# EAGLE library part TSUNAMI_AUDIO_PORTS (library audioflyer)
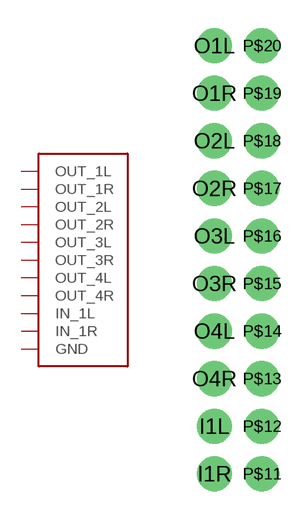
[diagram p1: symbol with the pads of TSUNAMI_AUDIO_PORTS; footprint TSUNAMI_AUDIO_PORTS]

Designator prefix -

## TSUNAMI_AUDIO_PORTS  [TSUNAMI_AUDIO_PORTS]
I1L  IN_1L
I1R  IN_1R
O1L  OUT_1L
O1R  OUT_1R
O2L  OUT_2L
O2R  OUT_2R
O3L  OUT_3L
O3R  OUT_3R
O4L  OUT_4L
O4R  OUT_4R
P$11  GND
P$12  GND
P$13  GND
P$14  GND
P$15  GND
P$16  GND
P$17  GND
P$18  GND
P$19  GND
P$20  GND

## Footprint TSUNAMI_AUDIO_PORTS (pad centres in mm)
drill 1.118 pad 1.88: I1L 0,2.54; I1R 0,0; O1L 0,22.86; O1R 0,20.32; O2L 0,17.78; O2R 0,15.24; O3L 0,12.7; O3R 0,10.16; O4L 0,7.62; O4R 0,5.08; P$11 2.54,0; P$12 2.54,2.54; P$13 2.54,5.08; P$14 2.54,7.62; P$15 2.54,10.16; P$16 2.54,12.7; P$17 2.54,15.24; P$18 2.54,17.78; P$19 2.54,20.32; P$20 2.54,22.86